# EAGLE library part TRINKET_3V3 (library SteelCaveRobotics-Boards)
Adafruit Trinket - 3.3V https://www.adafruit.com/products/1500
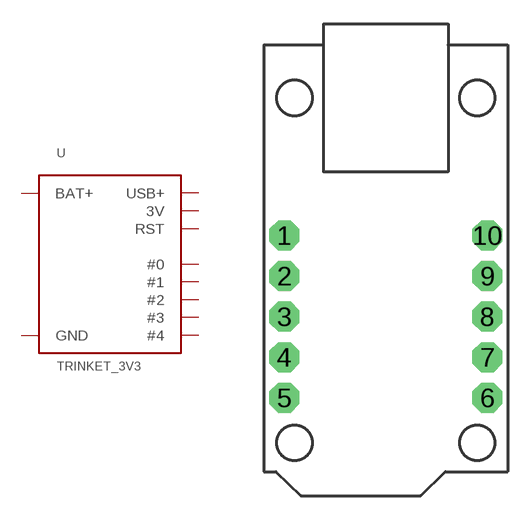
[diagram p3: symbol with the pads of TRINKET; footprint TRINKET]

Designator prefix -

## TRINKET_3V3  [TRINKET]
1  BAT+  pwr
2  GND  pwr
3  #4
4  #3
5  RST
6  3V  pwr
7  #2
8  #1
9  #0
10  USB+  pwr

## Footprint TRINKET (pad centres in mm)
Adafruit Trinket https://www.adafruit.com/category/167
drill 1.016 pad 1.88 octagon: 1 -6.35,1.42; 2 -6.35,-1.12; 3 -6.35,-3.66; 4 -6.35,-6.2; 5 -6.35,-8.74; 6 6.35,-8.74; 7 6.35,-6.2; 8 6.35,-3.66; 9 6.35,-1.12; 10 6.35,1.42